# EAGLE library part PIC18F4620 (library microchip_martin)
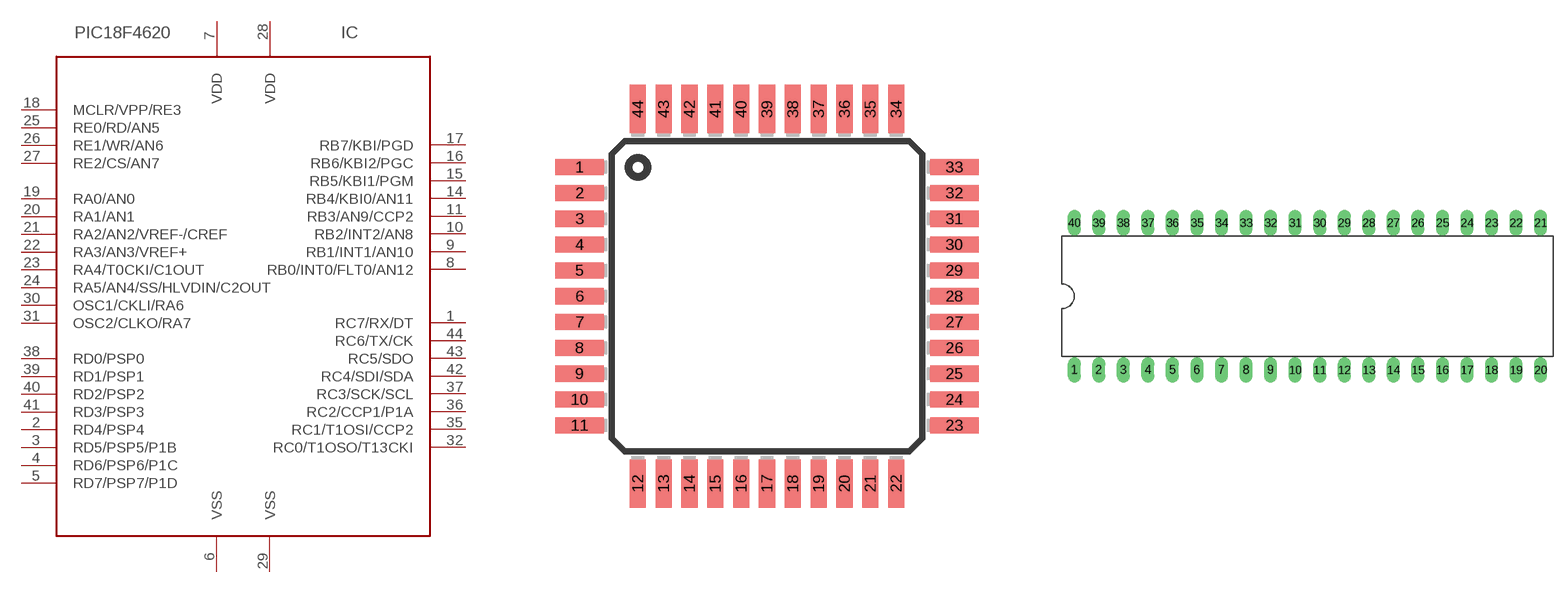
[diagram p0: symbol with the pads of TQFP44; footprints TQFP44, DIL40]

Designator prefix IC

## PIC18F4620PIC18F4620-X/PT  [TQFP44]
1  RC7/RX/DT
2  RD4/PSP4
3  RD5/PSP5/P1B
4  RD6/PSP6/P1C
5  RD7/PSP7/P1D
6  VSS  sup
7  VDD  pwr
8  RB0/INT0/FLT0/AN12
9  RB1/INT1/AN10
10  RB2/INT2/AN8
11  RB3/AN9/CCP2
14  RB4/KBI0/AN11
15  RB5/KBI1/PGM
16  RB6/KBI2/PGC
17  RB7/KBI/PGD
18  MCLR/VPP/RE3
19  RA0/AN0
20  RA1/AN1
21  RA2/AN2/VREF-/CREF
22  RA3/AN3/VREF+
23  RA4/T0CKI/C1OUT
24  RA5/AN4/SS/HLVDIN/C2OUT
25  RE0/RD/AN5
26  RE1/WR/AN6
27  RE2/CS/AN7
28  VDD  pwr
29  VSS  sup
30  OSC1/CKLI/RA6
31  OSC2/CLKO/RA7
32  RC0/T1OSO/T13CKI
35  RC1/T1OSI/CCP2
36  RC2/CCP1/P1A
37  RC3/SCK/SCL
38  RD0/PSP0
39  RD1/PSP1
40  RD2/PSP2
41  RD3/PSP3
42  RC4/SDI/SDA
43  RC5/SDO
44  RC6/TX/CK

## PIC18F4620PIC18F4620-X/P  [DIL40]
1  MCLR/VPP/RE3
2  RA0/AN0
3  RA1/AN1
4  RA2/AN2/VREF-/CREF
5  RA3/AN3/VREF+
6  RA4/T0CKI/C1OUT
7  RA5/AN4/SS/HLVDIN/C2OUT
8  RE0/RD/AN5
9  RE1/WR/AN6
10  RE2/CS/AN7
11  VDD  pwr
12  VSS  sup
13  OSC1/CKLI/RA6
14  OSC2/CLKO/RA7
15  RC0/T1OSO/T13CKI
16  RC1/T1OSI/CCP2
17  RC2/CCP1/P1A
18  RC3/SCK/SCL
19  RD0/PSP0
20  RD1/PSP1
21  RD2/PSP2
22  RD3/PSP3
23  RC4/SDI/SDA
24  RC5/SDO
25  RC6/TX/CK
26  RC7/RX/DT
27  RD4/PSP4
28  RD5/PSP5/P1B
29  RD6/PSP6/P1C
30  RD7/PSP7/P1D
31  VSS  sup
32  VDD  pwr
33  RB0/INT0/FLT0/AN12
34  RB1/INT1/AN10
35  RB2/INT2/AN8
36  RB3/AN9/CCP2
37  RB4/KBI0/AN11
38  RB5/KBI1/PGM
39  RB6/KBI2/PGC
40  RB7/KBI/PGD

## Footprint TQFP44 (pad centres in mm)
Thin Quad Flat Pack package type TQ
smd 1.5 x 0.5: 1 -5.8,4; 2 -5.8,3.2; 3 -5.8,2.4; 4 -5.8,1.6; 5 -5.8,0.8; 6 -5.8,0; 7 -5.8,-0.8; 8 -5.8,-1.6; 9 -5.8,-2.4; 10 -5.8,-3.2; 11 -5.8,-4; 23 5.8,-4; 24 5.8,-3.2; 25 5.8,-2.4; 26 5.8,-1.6; 27 5.8,-0.8; 28 5.8,0; 29 5.8,0.8; 30 5.8,1.6; 31 5.8,2.4; 32 5.8,3.2; 33 5.8,4
smd 0.5 x 1.5: 12 -4,-5.8; 13 -3.2,-5.8; 14 -2.4,-5.8; 15 -1.6,-5.8; 16 -0.8,-5.8; 17 0,-5.8; 18 0.8,-5.8; 19 1.6,-5.8; 20 2.4,-5.8; 21 3.2,-5.8; 22 4,-5.8; 34 4,5.8; 35 3.2,5.8; 36 2.4,5.8; 37 1.6,5.8; 38 0.8,5.8; 39 0,5.8; 40 -0.8,5.8; 41 -1.6,5.8; 42 -2.4,5.8; 43 -3.2,5.8; 44 -4,5.8

## Footprint DIL40 (pad centres in mm)
Dual In Line package type P
drill 0.813 long: 1 -24.13,-7.62; 2 -21.59,-7.62; 3 -19.05,-7.62; 4 -16.51,-7.62; 5 -13.97,-7.62; 6 -11.43,-7.62; 7 -8.89,-7.62; 8 -6.35,-7.62; 9 -3.81,-7.62; 10 -1.27,-7.62; 11 1.27,-7.62; 12 3.81,-7.62; 13 6.35,-7.62; 14 8.89,-7.62; 15 11.43,-7.62; 16 13.97,-7.62; 17 16.51,-7.62; 18 19.05,-7.62; 19 21.59,-7.62; 20 24.13,-7.62; 21 24.13,7.62; 22 21.59,7.62; 23 19.05,7.62; 24 16.51,7.62; 25 13.97,7.62; 26 11.43,7.62; 27 8.89,7.62; 28 6.35,7.62; 29 3.81,7.62; 30 1.27,7.62; 31 -1.27,7.62; 32 -3.81,7.62; 33 -6.35,7.62; 34 -8.89,7.62; 35 -11.43,7.62; 36 -13.97,7.62; 37 -16.51,7.62; 38 -19.05,7.62; 39 -21.59,7.62; 40 -24.13,7.62